# Altium footprint library libysk_switches.PcbLib: 1 footprints
Each footprint in its own frame and in the unit in brackets; x right, y up, seen from the top. Pads: shape width x height; smd on the part's side, far side on the other; paste and mask are expansions set on the pad; w line width, h text height; cw(c..) or ccw(c..) is an arc to the next point about the centre after c.
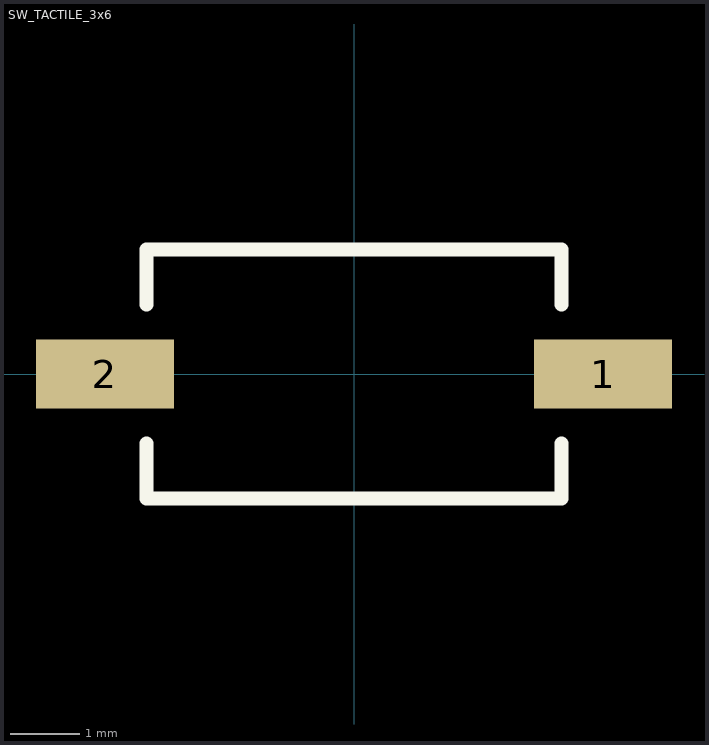
[diagram p0: the footprint, top view; thin cyan lines are the x and y axes]

## SW_TACTILE_3x6 [mm] "TACTILE SWITCH, SMD, 3,6"
pads (2):
  rect 2x1 smd paste+0: 1(3.6,0) 2(-3.6,0)
Top Overlay:
  lines w0.2: -3,-1 -3,-1.8 3,-1.8 3,-1 ; -3,1 -3,1.8 3,1.8 3,1